# Altium integrated library Integrated_Library1.IntLib: 1 symbol
Pins are listed as number, name and electrical type; pins without a type are passive.

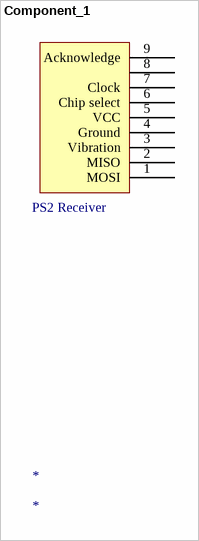
[diagram p0: symbol Component_1]

## Component_1
designator *
pins: 1 MOSI, 2 MISO, 3 Vibration, 4 Ground, 5 VCC, 6 Chip select, 7 Clock, 8, 9 Acknowledge
text: PS2 Receiver